# EAGLE library part RASPBERRY_PI_4B_4GB (library RASPBERRY_PI_4B_4GB)
Check availability <https://pricing.snapeda.com/parts/RASPBERRY%20PI%204B/4GB/Raspberry%20Pi/view-part?ref=eda>
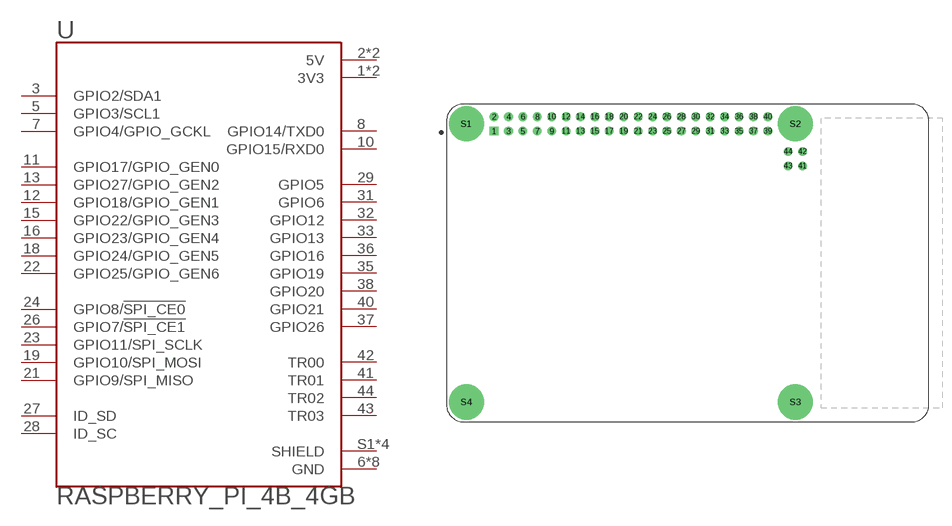
[diagram p0: symbol with the pads of MODULE_RASPBERRY_PI_4B_4GB; footprint MODULE_RASPBERRY_PI_4B_4GB]

Designator prefix U

## RASPBERRY_PI_4B_4GB (Availability: In Stock; Check_prices: https://www.snapeda.com/parts/RASPBERRY%20PI%204B/4GB/Raspberry+Pi/view-part/?ref=eda; Description: BCM2711 Raspberry Pi 4 Model B 4GB - ARM® Cortex®-A72 MPU Embedded Evaluation Board; MF: Raspberry Pi; MP: RASPBERRY PI 4B/4GB; Package: None; Price: None; SnapEDA_Link: https://www.snapeda.com/parts/RASPBERRY%20PI%204B/4GB/Raspberry+Pi/view-part/?ref=snap)  [MODULE_RASPBERRY_PI_4B_4GB]
1  3V3  pwr
2  5V  pwr
3  GPIO2/SDA1
4  5V  pwr
5  GPIO3/SCL1
6  GND  pwr
7  GPIO4/GPIO_GCKL
8  GPIO14/TXD0
9  GND  pwr
10  GPIO15/RXD0
11  GPIO17/GPIO_GEN0
12  GPIO18/GPIO_GEN1
13  GPIO27/GPIO_GEN2
14  GND  pwr
15  GPIO22/GPIO_GEN3
16  GPIO23/GPIO_GEN4
17  3V3  pwr
18  GPIO24/GPIO_GEN5
19  GPIO10/SPI_MOSI
20  GND  pwr
21  GPIO9/SPI_MISO
22  GPIO25/GPIO_GEN6
23  GPIO11/SPI_SCLK
24  GPIO8/!SPI_CE0!
25  GND  pwr
26  GPIO7/!SPI_CE1!
27  ID_SD
28  ID_SC
29  GPIO5
30  GND  pwr
31  GPIO6
32  GPIO12
33  GPIO13
34  GND  pwr
35  GPIO19
36  GPIO16
37  GPIO26
38  GPIO20
39  GND  pwr
40  GPIO21
41  TR01
42  TR00
43  TR03
44  TR02
S1  SHIELD  pwr
S2  SHIELD  pwr
S3  SHIELD  pwr
S4  SHIELD  pwr

## Footprint MODULE_RASPBERRY_PI_4B_4GB (pad centres in mm)
drill 1.016 square: 1 -34.13,23.23
drill 1.016: 2 -34.13,25.77; 3 -31.59,23.23; 4 -31.59,25.77; 5 -29.05,23.23; 6 -29.05,25.77; 7 -26.51,23.23; 8 -26.51,25.77; 9 -23.97,23.23; 10 -23.97,25.77; 11 -21.43,23.23; 12 -21.43,25.77; 13 -18.89,23.23; 14 -18.89,25.77; 15 -16.35,23.23; 16 -16.35,25.77; 17 -13.81,23.23; 18 -13.81,25.77; 19 -11.27,23.23; 20 -11.27,25.77; 21 -8.73,23.23; 22 -8.73,25.77; 23 -6.19,23.23; 24 -6.19,25.77; 25 -3.65,23.23; 26 -3.65,25.77; 27 -1.11,23.23; 28 -1.11,25.77; 29 1.43,23.23; 30 1.43,25.77; 31 3.97,23.23; 32 3.97,25.77; 33 6.51,23.23; 34 6.51,25.77; 35 9.05,23.23; 36 9.05,25.77; 37 11.59,23.23; 38 11.59,25.77; 39 14.13,23.23; 40 14.13,25.77; 41 20.23,17.107; 42 20.23,19.647; 43 17.69,17.107; 44 17.69,19.647
drill 2.75 pad 6.2: S1 -39,24.5; S2 19,24.5; S3 19,-24.5; S4 -39,-24.5